# EAGLE library part BOOSTXL-SENSHUB (library BOOSTXL-SENSHUB)
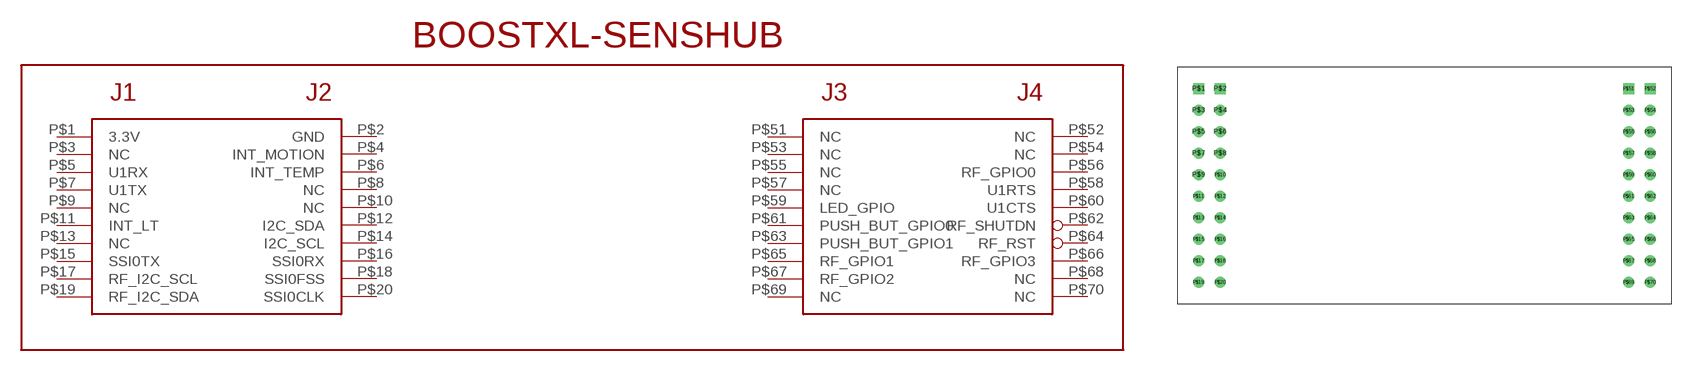
[diagram p0: symbol with the pads of BOOSTXL-SENSHUB; footprint BOOSTXL-SENSHUB]

Designator prefix -

## BOOSTXL-SENSHUB  [BOOSTXL-SENSHUB]
P$1  3.3V
P$2  GND
P$3  NC
P$4  INT_MOTION
P$5  U1RX
P$6  INT_TEMP
P$7  U1TX
P$8  NC
P$9  NC
P$10  NC
P$11  INT_LT
P$12  I2C_SDA
P$13  NC
P$14  I2C_SCL
P$15  SSI0TX
P$16  SSI0RX
P$17  RF_I2C_SCL
P$18  SSI0FSS
P$19  RF_I2C_SDA
P$20  SSI0CLK
P$51  NC
P$52  NC
P$53  NC
P$54  NC
P$55  NC
P$56  RF_GPIO0
P$57  NC
P$58  U1RTS
P$59  LED_GPIO
P$60  U1CTS
P$61  PUSH_BUT_GPIO0
P$62  RF_SHUTDN
P$63  PUSH_BUT_GPIO1
P$64  RF_RST
P$65  RF_GPIO1
P$66  RF_GPIO3
P$67  RF_GPIO2
P$68  NC
P$69  NC
P$70  NC

## Footprint BOOSTXL-SENSHUB (pad centres in mm)
drill 0.8 square: P$1 -27.94,30.48; P$2 -25.4,30.48; P$51 22.86,30.48; P$52 25.4,30.48
drill 0.8: P$3 -27.94,27.94; P$4 -25.4,27.94; P$5 -27.94,25.4; P$6 -25.4,25.4; P$7 -27.94,22.86; P$8 -25.4,22.86; P$9 -27.94,20.32; P$10 -25.4,20.32; P$11 -27.94,17.78; P$12 -25.4,17.78; P$13 -27.94,15.24; P$14 -25.4,15.24; P$15 -27.94,12.7; P$16 -25.4,12.7; P$17 -27.94,10.16; P$18 -25.4,10.16; P$19 -27.94,7.62; P$20 -25.4,7.62; P$53 22.86,27.94; P$54 25.4,27.94; P$55 22.86,25.4; P$56 25.4,25.4; P$57 22.86,22.86; P$58 25.4,22.86; P$59 22.86,20.32; P$60 25.4,20.32; P$61 22.86,17.78; P$62 25.4,17.78; P$63 22.86,15.24; P$64 25.4,15.24; P$65 22.86,12.7; P$66 25.4,12.7; P$67 22.86,10.16; P$68 25.4,10.16; P$69 22.86,7.62; P$70 25.4,7.62